# Altium footprint library PcbLib1.PcbLib: 17 footprints (part 1 of 2)
Each footprint in its own frame and in the unit in brackets; x right, y up, seen from the top. Pads: shape width x height; smd on the part's side, far side on the other; paste and mask are expansions set on the pad; w line width, h text height; cw(c..) or ccw(c..) is an arc to the next point about the centre after c.
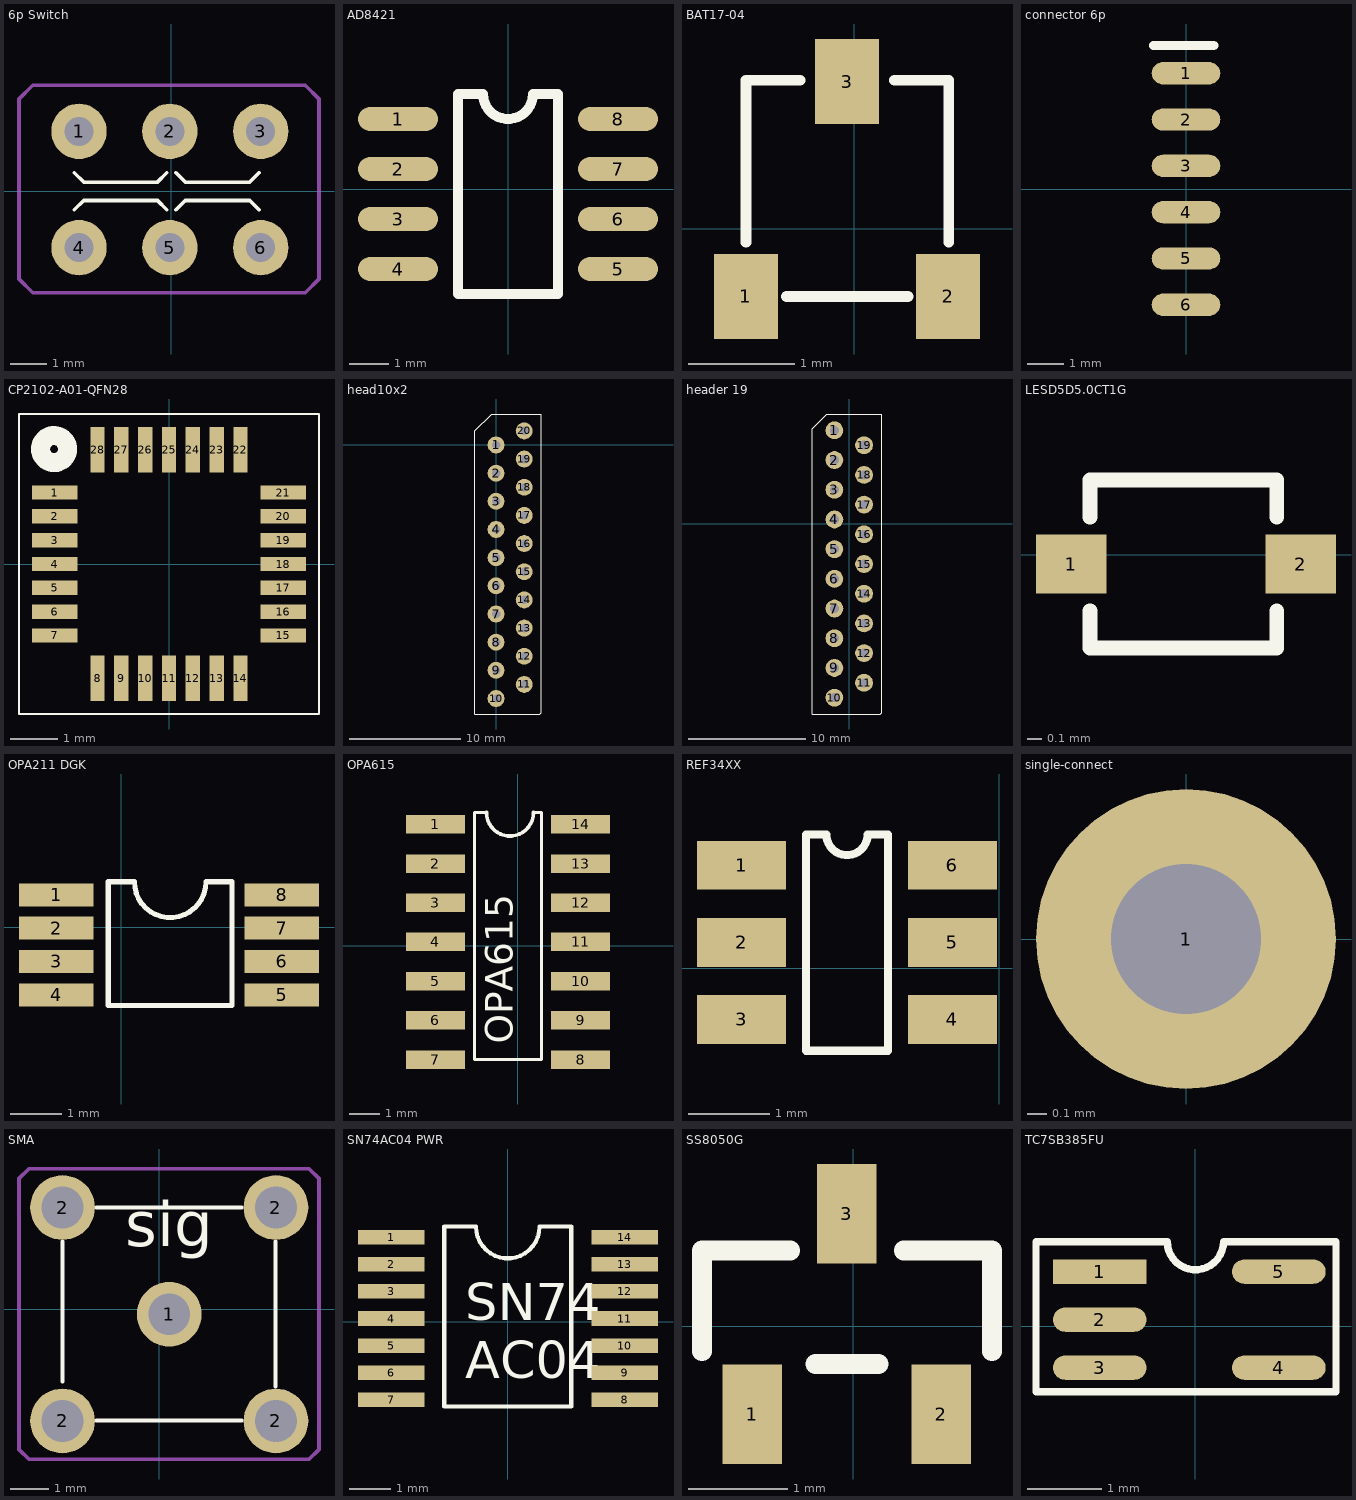
[diagram p0: the footprints below, top view; thin cyan lines are the x and y axes]

## 6p Switch [mil]
pads (6):
  round 60 hole 31.5: 1(-100,65) 2(-1.57,65) 3(96.85,65) 4(-100,-60.98) 5(-1.57,-60.98) 6(96.85,-60.98)
Top Overlay:
  lines w3.94: -105,-20 -95,-10 -15,-10 -5,-20 ; -105,20 -95,10 -15,10 -5,20 ; 5,-20 15,-10 85,-10 95,-20 ; 5,20 15,10 85,10 95,20
Mechanical 1:
  lines w3.94: -165,-95 -150,-110 145,-110 160,-95 160,100 145,115 -150,115 -165,100 -165,-95

## AD8421 [mil]
pads (8):
  oval 80x24 smd: 1(-110,70) 2(-110,20) 3(-110,-30) 4(-110,-80) 5(110,-80) 6(110,-30) 7(110,20) 8(110,70)
Top Overlay:
  lines w10: -50,-105 50,-105 50,95 25,95 cw(c0,95) -25,95 -50,95 -50,-105
3D body: height 73.87, standoff -1.02, extent -124.78,-103.25 124.78,93.75

## BAT17-04 [mm]
pads (3):
  rect 0.6x0.8 smd: 1(-1.016,-0.635) 2(0.884,-0.635) 3(-0.066,1.385)
Top Overlay:
  lines w0.1: -1.016,-0.127 -1.016,1.397 -0.508,1.397 ; -0.635,-0.635 0.508,-0.635 ; 0.381,1.397 0.889,1.397 0.889,-0.127

## connector 6p [mil]
pads (6):
  oval 74x24 smd: 1(0,125) 2(0,75) 3(0,25) 4(0,-25) 5(0,-75) 6(0,-125)
Top Overlay:
  lines w10: -35,155 30,155

## CP2102-A01-QFN28 [mm]
pads (28):
  rect 0.95x0.3 smd: 1(-2.4,1.5) 2(-2.4,1) 3(-2.4,0.5) 4(-2.4,0) 5(-2.4,-0.5) 6(-2.4,-1) 7(-2.4,-1.5) 15(2.4,-1.5) 16(2.4,-1) 17(2.4,-0.5) 18(2.4,0) 19(2.4,0.5) 20(2.4,1) 21(2.4,1.5)
  rect 0.3x0.95 smd: 8(-1.5,-2.4) 9(-1,-2.4) 10(-0.5,-2.4) 11(0,-2.4) 12(0.5,-2.4) 13(1,-2.4) 14(1.5,-2.4) 22(1.5,2.4) 23(1,2.4) 24(0.5,2.4) 25(0,2.4) 26(-0.5,2.4) 27(-1,2.4) 28(-1.5,2.4)
Top Overlay:
  circle w0.4: c-2.413,2.413 r0.284
  lines w0.05: -3.15,-3.15 -3.15,3.15 3.15,3.15 3.15,-3.15 -3.15,-3.15

## head10x2 [mil]
pads (20):
  round 60 hole 30: 1(0,0) 2(0,-100) 3(0,-200) 4(0,-300) 5(0,-400) 6(0,-500) 7(0,-600) 8(0,-700) 9(0,-800) 10(0,-900) 11(100,-850) 12(100,-750) 13(100,-650) 14(100,-550) 15(100,-450) 16(100,-350) 17(100,-250) 18(100,-150) 19(100,-50) 20(100,50)
Top Overlay:
  lines w3.94: 160,-905 160,-760 160,110 -15,110 -75,50 -75,-955 155,-955 160,-950 160,-900

## header 19 [mil]
pads (19):
  round 60 hole 30: 1(-50,315) 2(-50,215) 3(-50,115) 4(-50,15) 5(-50,-85) 6(-50,-185) 7(-50,-285) 8(-50,-385) 9(-50,-485) 10(-50,-585) 11(50,-535) 12(50,-435) 13(50,-335) 14(50,-235) 15(50,-135) 16(50,-35) 17(50,65) 18(50,165) 19(50,265)
Top Overlay:
  lines w3.94: 110,-590 110,-445 110,370 -75,370 -125,320 -125,-640 105,-640 110,-635 110,-585

## LESD5D5.0CT1G [mm]
pads (2):
  rect 0.48x0.4 smd: 1(-2.921,-0.064) 2(-1.361,-0.064)
Top Overlay:
  lines w0.1: -2.794,-0.381 -2.794,-0.635 -1.524,-0.635 -1.524,-0.381 ; -2.794,0.254 -2.794,0.508 -1.524,0.508 -1.524,0.254

## OPA211 DGK [mm]
pads (8):
  rect 1.45x0.45 smd: 1(-1.27,0.635) 2(-1.27,-0.015) 3(-1.27,-0.665) 4(-1.27,-1.315) 5(3.13,-1.315) 6(3.13,-0.665) 7(3.13,-0.015) 8(3.13,0.635)
Top Overlay:
  lines w0.1: -0.254,-1.524 -0.254,0.889 0.254,0.889 ccw(c0.953,0.889) 1.651,0.889 2.159,0.889 2.159,-1.524 -0.254,-1.524

## OPA615 [mm]
pads (14):
  rect 1.9x0.6 smd: 1(-2.667,3.937) 2(-2.667,2.667) 3(-2.667,1.397) 4(-2.667,0.127) 5(-2.667,-1.143) 6(-2.667,-2.413) 7(-2.667,-3.683) 8(2.033,-3.683) 9(2.033,-2.413) 10(2.033,-1.143) 11(2.033,0.127) 12(2.033,1.397) 13(2.033,2.667) 14(2.033,3.937)
Top Overlay:
  lines w0.1: -1.016,4.318 -1.397,4.318 -1.397,-3.683 0.762,-3.683 0.762,4.318 0.508,4.318
  lines w0.12: -1.016,4.318 ccw(c-0.254,4.318) 0.508,4.318
  text "OPA615" at 0.127,-3.175 h1.52

## REF34XX [mm]
pads (6):
  rect 1.1x0.6 smd: 1(-3.175,1.27) 2(-3.175,0.32) 3(-3.175,-0.63) 4(-0.575,-0.63) 5(-0.575,0.32) 6(-0.575,1.27)
Top Overlay:
  lines w0.1: -2.383,-1.016 -2.383,1.651 -2.129,1.651 ccw(c-1.875,1.651) -1.621,1.651 -1.367,1.651 -1.367,-1.016 -2.383,-1.016

## single-connect [mil]
pads (1):
  round 60 hole 30: 1(0,0)

## SMA [mm]
pads (5):
  round 1.7 hole 1.1: 1(0.26,-0.133) 2(-2.54,-2.933) 2(-2.54,2.667) 2(3.06,-2.933) 2(3.06,2.667)
Top Overlay:
  lines w0.1: -2.54,-1.905 -2.54,1.778 ; -1.651,-2.921 2.159,-2.921 ; -1.651,2.667 2.159,2.667 ; 3.048,-2.032 3.048,1.778
  text "sig" at -0.889,1.27 h2
Mechanical 1:
  lines w0.1: -3.683,-3.683 -3.429,-3.937 3.937,-3.937 4.191,-3.683 4.191,3.429 3.937,3.683 -3.429,3.683 -3.683,3.429 -3.683,-3.683

## SN74AC04 PWR [mm]
pads (14):
  rect 1.6x0.35 smd: 1(-2.794,2.032) 2(-2.794,1.382) 3(-2.794,0.732) 4(-2.794,0.082) 5(-2.794,-0.568) 6(-2.794,-1.218) 7(-2.794,-1.868) 8(2.806,-1.868) 9(2.806,-1.218) 10(2.806,-0.568) 11(2.806,0.082) 12(2.806,0.732) 13(2.806,1.382) 14(2.806,2.032)
Top Overlay:
  lines w0.1: -1.524,-2.032 1.524,-2.032 1.524,2.286 0.762,2.286 cw(c0,2.286) -0.762,2.286 -1.524,2.286 -1.524,-2.032
  text "SN74" at -1.016,-0.254 h1.52
  text "AC04" at -1.016,-1.651 h1.52

## SS8050G [mm]
pads (3):
  rect 0.6x1 smd: 1(-1.016,-0.889) 2(0.884,-0.889) 3(-0.066,1.131)
Top Overlay:
  lines w0.2: -1.524,-0.254 -1.524,0.762 -0.635,0.762 ; -0.381,-0.381 0.254,-0.381 ; 0.508,0.762 1.397,0.762 1.397,-0.254

## TC7SB385FU [mm]
pads (5):
  rect 1.27x0.33 smd: 1(-1.295,0.737)
  oval 1.27x0.33 smd: 2(-1.295,0.087) 3(-1.295,-0.563) 4(1.13,-0.563) 5(1.13,0.737)
Top Overlay:
  lines w0.1: -2.159,-0.889 -2.159,1.143 -1.27,1.143 -0.381,1.143 ccw(c0,1.143) 0.381,1.143 1.143,1.143 1.905,1.143 1.905,-0.889 1.143,-0.889 -1.27,-0.889 -2.159,-0.889